# EAGLE library part LM2623 (library texas)
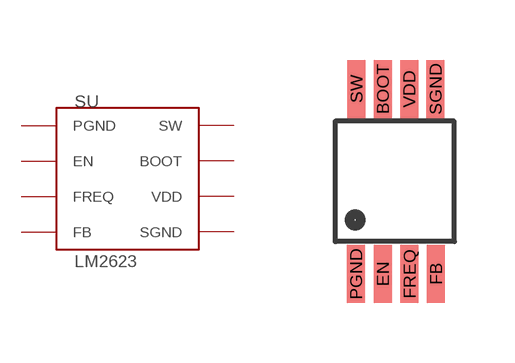
[diagram p127: symbol with the pads of VSSOP8; footprint VSSOP8]

Designator prefix SU

## LM2623  [VSSOP8]
BOOT  BOOT
EN  EN
FB  FB
FREQ  FREQ
PGND  PGND
SGND  SGND
SW  SW
VDD  VDD

## Footprint VSSOP8 (pad centres in mm)
smd 0.45 x 1.45: BOOT -0.25,2.27; EN -0.25,-2.36; FB 1.08,-2.36; FREQ 0.42,-2.36; PGND -0.92,-2.36; SGND 1.07,2.27; SW -0.91,2.27; VDD 0.41,2.27